# Altium footprint library PcbLib1.PcbLib: 5 footprints
Each footprint in its own frame and in the unit in brackets; x right, y up, seen from the top. Pads: shape width x height; smd on the part's side, far side on the other; paste and mask are expansions set on the pad; w line width, h text height; cw(c..) or ccw(c..) is an arc to the next point about the centre after c.
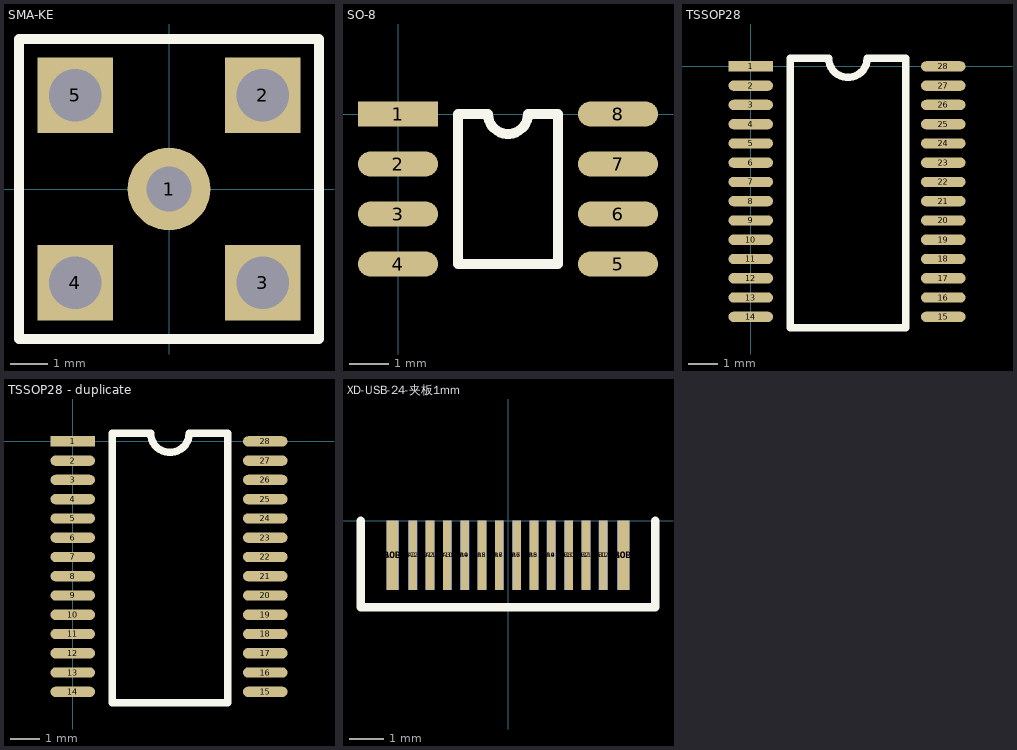
[diagram p0: the footprints below, top view; thin cyan lines are the x and y axes]

## SMA-KE [mm]
pads (5):
  round 2.2 hole 1.2: 1(0,0)
  rect 2x2 hole 1.4: 2(2.5,2.5) 3(2.5,-2.5) 4(-2.5,-2.5) 5(-2.5,2.5)
Top Overlay:
  lines w0.254: -4,-4 -4,4 4,4 4,-4 -4,-4

## SO-8 [mil]
pads (8):
  rect 80x25 smd: 1(0,0)
  oval 80x25 smd: 2(0,-50) 3(0,-100) 4(0,-150) 5(220,-150) 6(220,-100) 7(220,-50) 8(220,0)
Top Overlay:
  lines w10: 60,-150 160,-150 160,0 130,0 cw(c110,0) 90,0 60,0 60,-150

## TSSOP28 [mm]
pads (28):
  rect 1.5x0.35 smd: 1(0,0)
  oval 1.5x0.35 smd: 2(0,-0.65) 3(0,-1.3) 4(0,-1.95) 5(0,-2.6) 6(0,-3.25) 7(0,-3.9) 8(0,-4.55) 9(0,-5.2) 10(0,-5.85) 11(0,-6.5) 12(0,-7.15) 13(0,-7.8) 14(0,-8.45) 15(6.5,-8.45) 16(6.5,-7.8) 17(6.5,-7.15) 18(6.5,-6.5) 19(6.5,-5.85) 20(6.5,-5.2) 21(6.5,-4.55) 22(6.5,-3.9) 23(6.5,-3.25) 24(6.5,-2.6) 25(6.5,-1.95) 26(6.5,-1.3) 27(6.5,-0.65) 28(6.5,0)
Top Overlay:
  lines w0.254: 1.331,-8.825 1.331,0.275 2.631,0.275 ccw(c3.281,0.275) 3.931,0.275 5.231,0.275 5.231,-8.825 1.331,-8.825

## TSSOP28 - duplicate [mm]
pads (28):
  rect 1.5x0.35 smd: 1(0,0)
  oval 1.5x0.35 smd: 2(0,-0.65) 3(0,-1.3) 4(0,-1.95) 5(0,-2.6) 6(0,-3.25) 7(0,-3.9) 8(0,-4.55) 9(0,-5.2) 10(0,-5.85) 11(0,-6.5) 12(0,-7.15) 13(0,-7.8) 14(0,-8.45) 15(6.5,-8.45) 16(6.5,-7.8) 17(6.5,-7.15) 18(6.5,-6.5) 19(6.5,-5.85) 20(6.5,-5.2) 21(6.5,-4.55) 22(6.5,-3.9) 23(6.5,-3.25) 24(6.5,-2.6) 25(6.5,-1.95) 26(6.5,-1.3) 27(6.5,-0.65) 28(6.5,0)
Top Overlay:
  lines w0.254: 1.331,-8.825 5.231,-8.825 5.231,0.275 3.931,0.275 cw(c3.281,0.275) 2.631,0.275 1.331,0.275 1.331,-8.825

## XD-USB-24-夹板1mm [mm]
pads (28):
  rect 0.35x2 smd: A0L(-3.33,-1) A0R(3.33,-1)
  rect 0.25x2 smd: A1(-2.75,-1) A2(-2.25,-1) A3(-1.75,-1) A4(-1.25,-1) A5(-0.75,-1) A6(-0.25,-1) A7(0.25,-1) A8(0.75,-1) A9(1.25,-1) A10(1.75,-1) A11(2.25,-1) A12(2.75,-1)
  rect 0.35x2 smd far side: B0L(3.33,-1) B0R(-3.33,-1)
  rect 0.25x2 smd far side: B1(2.75,-1) B2(2.25,-1) B3(1.75,-1) B4(1.25,-1) B5(0.75,-1) B6(0.25,-1) B7(-0.25,-1) B8(-0.75,-1) B9(-1.25,-1) B10(-1.75,-1) B11(-2.25,-1) B12(-2.75,-1)
Top Overlay:
  lines w0.254: -4.25,0 -4.25,-2.5 4.25,-2.5 4.25,0
Bottom Overlay:
  lines w0.254: -4.25,0 -4.25,-2.5 4.25,-2.5 4.25,0